# EAGLE library part LM2904DGKR (library MAÑE)
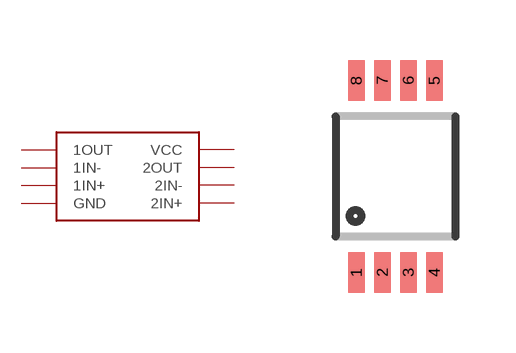
[diagram p5: symbol with the pads of MSOP8; footprint MSOP8]

Designator prefix -

## LM2904DGKROPAMP  [MSOP8]
1  1OUT
2  1IN-
3  1IN+
4  GND
5  2IN+
6  2IN-
7  2OUT
8  VCC

## Footprint MSOP8 (pad centres in mm)
smd 0.41 x 1.02: 1 -0.975,-2.4; 2 -0.325,-2.4; 3 0.325,-2.4; 4 0.975,-2.4; 5 0.975,2.4; 6 0.325,2.4; 7 -0.325,2.4; 8 -0.975,2.4